# EAGLE library part RT9011-CMGJ6 (library water-lib)
Low Dropout Regulators(LDO) Positive Fixed 330mV @ 300mA,330mV @ 300mA 5.5V 1.2V,2.8V 300mA,300mA TSOT-23-6 RoHS Source: Datasheet <https://datasheet.lcsc.com/szlcsc/Richtek-Tech-RT9011-CMGJ6_C131424.pdf>
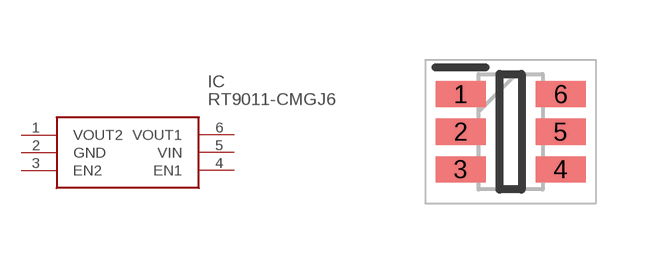
[diagram p0: symbol with the pads of SOT94P280X100-6N; footprint SOT94P280X100-6N]

Designator prefix IC

## RT9011-CMGJ6 (DESCRIPTION: Low Dropout Regulators(LDO) Positive Fixed 330mV @ 300mA,330mV @ 300mA 5.5V 1.2V,2.8V 300mA,300mA TSOT-23-6 RoHS; HEIGHT: 1mm; MANUFACTURER_NAME: RICHTEK; MANUFACTURER_PART_NUMBER: RT9011-CMGJ6)  [SOT94P280X100-6N]
1  VOUT2
2  GND
3  EN2
4  EN1
5  VIN
6  VOUT1

## Footprint SOT94P280X100-6N (pad centres in mm)
TSOT-23-6_1
smd 1.25 x 0.65: 1 -1.25,0.94; 2 -1.25,0; 3 -1.25,-0.94; 4 1.25,-0.94; 5 1.25,0; 6 1.25,0.94